# Altium footprint library Manu3.PcbLib: 69 footprints (part 5 of 5)
Each footprint in its own frame and in the unit in brackets; x right, y up, seen from the top. Pads: shape width x height; smd on the part's side, far side on the other; paste and mask are expansions set on the pad; w line width, h text height; cw(c..) or ccw(c..) is an arc to the next point about the centre after c.
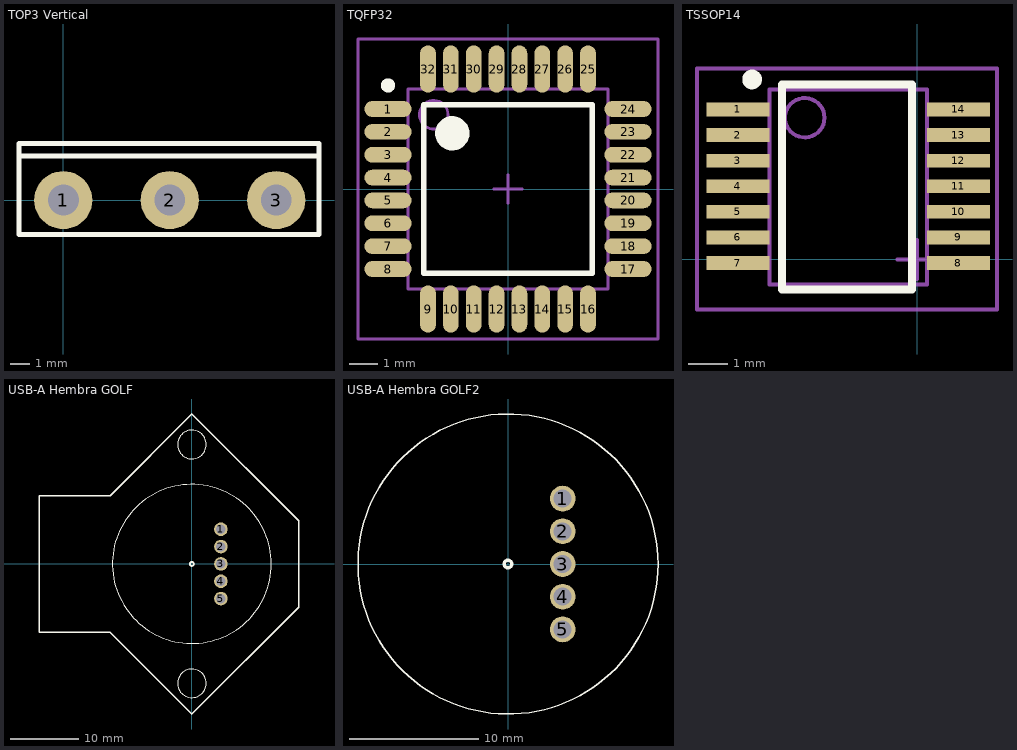
[diagram p4: the footprints below, top view; thin cyan lines are the x and y axes]

## TOP3 Vertical [mm]
height 21
pads (3):
  round 3 hole 1.6: 1(0,0) 2(5.5,0) 3(11,0)
Top Overlay:
  lines w0.254: -2.286,2.286 13.208,2.286 ; -2.286,-1.778 -2.286,2.921 13.208,2.921 13.208,-1.778 -2.286,-1.778
3D body: height 22.9, standoff -13, extent -2.264,-1.346 13.236,3.154

## TQFP32 [mm] "Thin QFP, 32-Leads, Body 7x7mm, Pitch 0.8mm, IPC Medium Density"
height 1.2
pads (32):
  oval 1.65x0.55 smd: 1(-4.2,2.8) 2(-4.2,2) 3(-4.2,1.2) 4(-4.2,0.4) 5(-4.2,-0.4) 6(-4.2,-1.2) 7(-4.2,-2) 8(-4.2,-2.8) 17(4.2,-2.8) 18(4.2,-2) 19(4.2,-1.2) 20(4.2,-0.4) 21(4.2,0.4) 22(4.2,1.2) 23(4.2,2) 24(4.2,2.8)
  oval 0.55x1.65 smd: 9(-2.8,-4.2) 10(-2,-4.2) 11(-1.2,-4.2) 12(-0.4,-4.2) 13(0.4,-4.2) 14(1.2,-4.2) 15(2,-4.2) 16(2.8,-4.2) 25(2.8,4.2) 26(2,4.2) 27(1.2,4.2) 28(0.4,4.2) 29(-0.4,4.2) 30(-1.2,4.2) 31(-2,4.2) 32(-2.8,4.2)
Top Overlay:
  circle w0.25: c-4.2,3.625 r0.125
  circle w0.6: c-1.95,1.95 r0.3
  lines w0.2: -2.95,-2.95 -2.95,2.95 2.95,2.95 2.95,-2.95 -2.95,-2.95
Mechanical 13:
  circle w0.1: c-2.6,2.6 r0.5
  lines w0.1: -3.5,-3.5 -3.5,3.5 3.5,3.5 3.5,-3.5 -3.5,-3.5
Mechanical 15:
  lines w0.1: -0.5,0 0.5,0 ; 0,-0.5 0,0.5 ; -5.25,-5.25 -5.25,5.25 5.25,5.25 5.25,-5.25 -5.25,-5.25
3D body: height 1.1, standoff 0, extent -4.483,-4.509 4.534,4.509

## TSSOP14 [mm] "SOIC, 14-Leads, Body 9x7.5mm, Pitch 1.27mm, IPC Medium Density"
height 2.65
pads (14):
  rect 1.6x0.35 smd: 1(-4.55,3.81) 2(-4.55,3.16) 3(-4.55,2.51) 4(-4.55,1.86) 5(-4.55,1.21) 6(-4.55,0.56) 7(-4.55,-0.09) 8(1.05,-0.09) 9(1.05,0.56) 10(1.05,1.21) 11(1.05,1.86) 12(1.05,2.51) 13(1.05,3.16) 14(1.05,3.81)
Top Overlay:
  circle w0.25: c-4.189,4.572 r0.125
  lines w0.2: -3.429,-0.762 -0.127,-0.762 -0.127,4.445 -3.429,4.445 -3.429,-0.762
Mechanical 13:
  circle w0.1: c-2.85,3.6 r0.5
  lines w0.1: -3.75,-0.635 0.254,-0.635 0.254,4.318 -3.75,4.318 -3.75,-0.635
Mechanical 15:
  lines w0.1: -0.5,0 0.5,0 ; 0,-0.5 0,0.5 ; -5.588,-1.27 2.032,-1.27 2.032,4.85 -5.588,4.85 -5.588,-1.27
3D body: height 2.65, standoff 0, extent -3.683,-0.635 0.254,4.318

## USB-A Hembra GOLF [mm]
height 5.12
pads (5):
  round 2 hole 1.4: 1(4.25,5.08) 2(4.25,2.54) 3(4.25,0) 4(4.25,-2.54) 5(4.25,-5.08)
Top Overlay:
  circle w0.1: c0,0 r11.65
  circle w0.1: c0,17.501 r2.1
  circle w0.1: c0,-17.501 r2.1
  circle w0.254: c0,0 r0.296
  lines w0.254: 15.646,0 15.646,-6.35 0,-21.996 -11.996,-10 -12.014,-10 -22.354,-10 -22.354,0 -22.354,10 -12.014,10 -11.971,10 0,21.971 15.65,6.321 15.65,0
3D body: height 1.6, standoff 0, extent 3.026,-6.31 5.41,6.248

## USB-A Hembra GOLF2 [mm]
height 5.12
pads (5):
  round 2 hole 1.4: 1(4.25,5.08) 2(4.25,2.54) 3(4.25,0) 4(4.25,-2.54) 5(4.25,-5.08)
Top Overlay:
  circle w0.1: c0,0 r11.65
  circle w0.254: c0,0 r0.296
3D body: height 1.6, standoff 0, extent 3.026,-6.31 5.41,6.248